# EAGLE library part PINHD-2X10 (library russian-vfds)
PIN HEADER
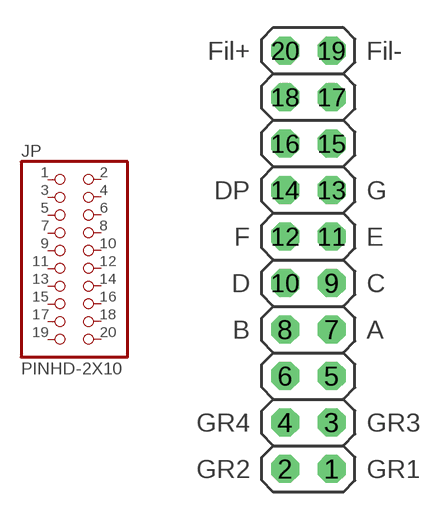
[diagram p1: symbol with the pads of 2X10; footprint 2X10]

Designator prefix JP

## PINHD-2X10  [2X10]
1  GRID1  pas
2  GRID2  pas
3  GRID3  pas
4  GRID4  pas
5  GRID5  pas
6  GRID6  pas
7  A  pas
8  B  pas
9  C  pas
10  D  pas
11  E  pas
12  F  pas
13  G  pas
14  DP  pas
15  15  pas
16  16  pas
17  17  pas
18  18  pas
19  FIL-  pas
20  FIL+  pas

## Footprint 2X10 (pad centres in mm)
PIN HEADER
drill 1.016 octagon: 1 1.27,-11.43; 2 -1.27,-11.43; 3 1.27,-8.89; 4 -1.27,-8.89; 5 1.27,-6.35; 6 -1.27,-6.35; 7 1.27,-3.81; 8 -1.27,-3.81; 9 1.27,-1.27; 10 -1.27,-1.27; 11 1.27,1.27; 12 -1.27,1.27; 13 1.27,3.81; 14 -1.27,3.81; 15 1.27,6.35; 16 -1.27,6.35; 17 1.27,8.89; 18 -1.27,8.89; 19 1.27,11.43; 20 -1.27,11.43